# Altium schematic symbol library auto_turn_components.SchLib: 12 symbols
Pins are listed as number, name and electrical type; pins without a type are passive.

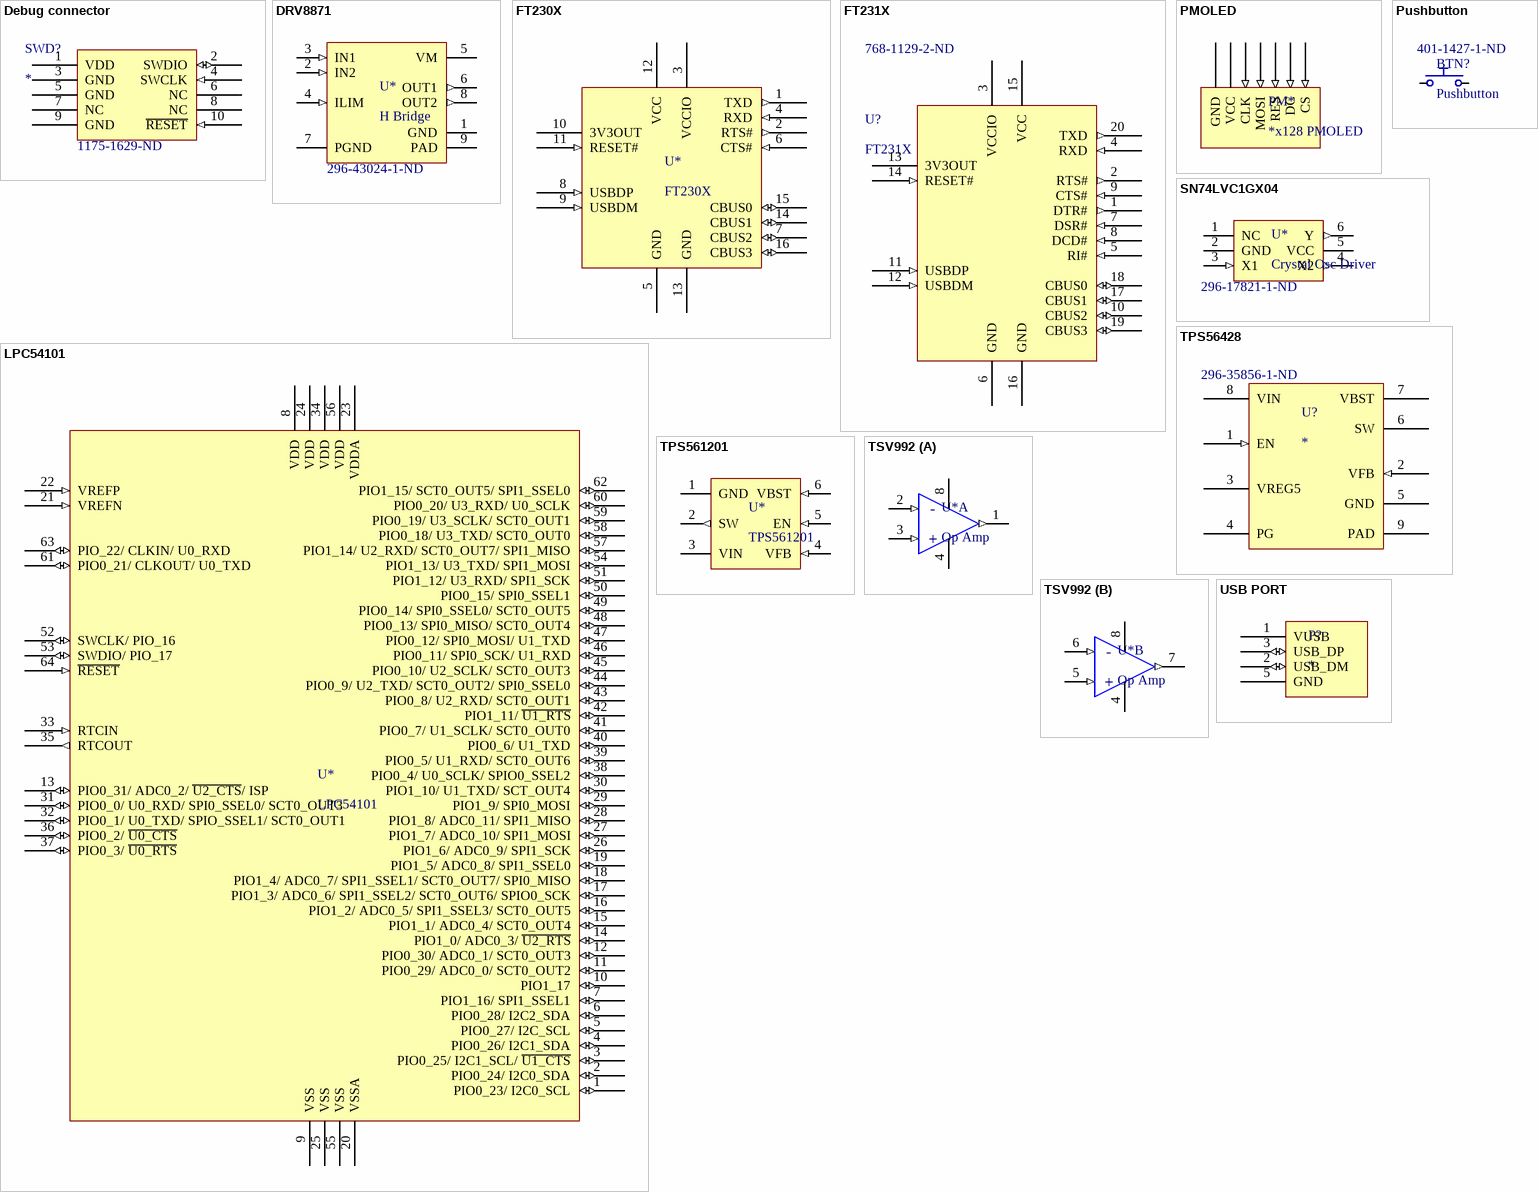
[diagram p0: symbols Debug connector to USB PORT]

## Debug connector
designator SWD?  Supplier Part Number 1: 1175-1629-ND
ARM 10 pin SWD connecttor; Supplier 1: Digi-Key
footprint ARM SWD connector (1.27mm pitch, 10 poles, 2 rows, SMD)
pins: 1 VDD (power), 2 SWDIO (io), 3 GND (power), 4 SWCLK (in), 5 GND (power), 6 NC, 7 NC, 8 NC, 9 GND (hiz), 10 ~{RESET} (in)

## DRV8871
designator U*, comment H Bridge  Supplier Part Number 1: 296-43024-1-ND
Half Bridge DC Motor Driver; Manufacturer: Texas Instruments; ManufacturerPartNumber: DRV8871DDAR; Supplier 1: Texas Instruments
footprint SOIC-8 PP (SOIC-8 with power pad from TI datasheet)
pins: 1 GND (power), 2 IN2 (in), 3 IN1 (in), 4 ILIM (in), 5 VM (power), 6 OUT1 (out), 7 PGND (power), 8 OUT2 (out), 9 PAD (power)

## FT230X
designator U*  Supplier Part Number 1: 768-1135-1-ND
FT230X USB TO BASIC UART IC; Manufacturer: FTDI; ManufacturerPartNumber: FT230X; Supplier 1: Digi-Key
footprint SSOP-16 FTDI (SOP, 16-Leads, Body 4.90x3.90mm, Pitch 0.64mm, IPC Medium Density)
pins: 1 TXD (out), 2 RTS# (out), 3 VCCIO (power), 4 RXD (in), 5 GND (power), 6 CTS# (in), 7 CBUS2 (io), 8 USBDP (in), 9 USBDM (in), 10 3V3OUT (power), 11 RESET# (in), 12 VCC (power), 13 GND (power), 14 CBUS1 (io), 15 CBUS0 (io), 16 CBUS3 (io)

## FT231X
designator U?  Supplier Part Number 1: 768-1129-2-ND
FTDI USB-UART full handshake IC; ManufacturerPartNumber: FT231XS-R; Supplier 1: Digi-Key
footprint SSOP-20 FTDI (FTDI description of SSOP-20 for FT231X, imperial)
pins: 1 DTR# (out), 2 RTS# (out), 3 VCCIO (power), 4 RXD (in), 5 RI# (in), 6 GND (power), 7 DSR# (in), 8 DCD# (in), 9 CTS# (in), 10 CBUS2 (io), 11 USBDP (in), 12 USBDM (in), 13 3V3OUT (power), 14 RESET# (in), 15 VCC (power), 16 GND (power), 17 CBUS1 (io), 18 CBUS0 (io), 19 CBUS3 (io), 20 TXD (out)

## LPC54101
designator U*
LPC54101 uC 64 pin; ManufacturerPartNumber: LPC54101J256BD64QL; Manufacturer: NXP; Supplier 1: DigiKey; Supplier Part Number 1: 568-12886-ND
footprint LQFP64 (LQFP64 from NXP datasheet long lead)
pins: 1 PIO0_23/ I2C0_SCL (io), 2 PIO0_24/ I2C0_SDA (io), 3 PIO0_25/ I2C1_SCL/ ~{U1_CTS} (io), 4 PIO0_26/ I2C1_SDA (io), 5 PIO0_27/ I2C_SCL (io), 6 PIO0_28/ I2C2_SDA (io), 7 PIO1_16/ SPI1_SSEL1 (io), 8 VDD (power), 9 VSS (power), 10 PIO1_17 (io), 11 PIO0_29/ ADC0_0/ SCT0_OUT2 (io), 12 PIO0_30/ ADC0_1/ SCT0_OUT3 (io), 13 PIO0_31/ ADC0_2/ ~{U2_CTS}/ ISP (io), 14 PIO1_0/ ADC0_3/ ~{U2_RTS} (io), 15 PIO1_1/ ADC0_4/ SCT0_OUT4 (io), 16 PIO1_2/ ADC0_5/ SPI1_SSEL3/ SCT0_OUT5 (io), 17 PIO1_3/ ADC0_6/ SPI1_SSEL2/ SCT0_OUT6/ SPIO0_SCK (io), 18 PIO1_4/ ADC0_7/ SPI1_SSEL1/ SCT0_OUT7/ SPI0_MISO (io), 19 PIO1_5/ ADC0_8/ SPI1_SSEL0 (io), 20 VSSA (power), 21 VREFN (in), 22 VREFP (in), 23 VDDA (power), 24 VDD (power), 25 VSS (power), 26 PIO1_6/ ADC0_9/ SPI1_SCK (io), 27 PIO1_7/ ADC0_10/ SPI1_MOSI (io), 28 PIO1_8/ ADC0_11/ SPI1_MISO (io), 29 PIO1_9/ SPI0_MOSI (io), 30 PIO1_10/ U1_TXD/ SCT_OUT4 (io), 31 PIO0_0/ U0_RXD/ SPI0_SSEL0/ SCT0_OUT3 (io), 32 PIO0_1/ U0_TXD/ SPIO_SSEL1/ SCT0_OUT1 (io), 33 RTCIN (in), 34 VDD (power), 35 RTCOUT (out), 36 PIO0_2/ ~{U0_CTS} (io), 37 PIO0_3/ ~{U0_RTS} (io), 38 PIO0_4/ U0_SCLK/ SPIO0_SSEL2 (io), 39 PIO0_5/ U1_RXD/ SCT0_OUT6 (io), 40 PIO0_6/ U1_TXD (io), 41 PIO0_7/ U1_SCLK/ SCT0_OUT0 (io), 42 PIO1_11/ ~{U1_RTS} (io), 43 PIO0_8/ U2_RXD/ SCT0_OUT1 (io), 44 PIO0_9/ U2_TXD/ SCT0_OUT2/ SPI0_SSEL0 (io), 45 PIO0_10/ U2_SCLK/ SCT0_OUT3 (io), 46 PIO0_11/ SPI0_SCK/ U1_RXD (io), 47 PIO0_12/ SPI0_MOSI/ U1_TXD (io), 48 PIO0_13/ SPI0_MISO/ SCT0_OUT4 (io), 49 PIO0_14/ SPI0_SSEL0/ SCT0_OUT5 (io), 50 PIO0_15/ SPI0_SSEL1 (io), 51 PIO1_12/ U3_RXD/ SPI1_SCK (io), 52 SWCLK/ PIO_16 (io), 53 SWDIO/ PIO_17 (io), 54 PIO1_13/ U3_TXD/ SPI1_MOSI (io), 55 VSS (power), 56 VDD (power), 57 PIO1_14/ U2_RXD/ SCT0_OUT7/ SPI1_MISO (io), 58 PIO0_18/ U3_TXD/ SCT0_OUT0 (io), 59 PIO0_19/ U3_SCLK/ SCT0_OUT1 (io), 60 PIO0_20/ U3_RXD/ U0_SCLK (io), 61 PIO0_21/ CLKOUT/ U0_TXD (io), 62 PIO1_15/ SCT0_OUT5/ SPI1_SSEL0 (io), 63 PIO_22/ CLKIN/ U0_RXD (io), 64 ~{RESET} (in)

## PMOLED
designator PM*, comment *x128 PMOLED
Passive Matrix Organic LED Display
footprint PMOLED (128x32 PMOLED)
pins: 1 GND (power), 2 VCC (power), 3 CLK (in), 4 MOSI (in), 5 RES (in), 6 DC (in), 7 CS (in)

## Pushbutton
designator BTN?  Supplier Part Number 1: 401-1427-1-ND
KMR2 microswitch; ManufacturerPartNumber: KMR221GLFS; Supplier 1: Digi-Key
footprint Pushbutton KMR2 (KMR 2 micro switch)
pins: 1, 2

## SN74LVC1GX04
designator U*, comment Crystal Osc Driver  Supplier Part Number 1: 296-17821-1-ND
Crystal Oscillator Driver IC SOT-23-6; ManufacturerPartNumber: SN74LVC1GX04DBVR; Manufacturer: Texas Instruments; Supplier 1: DigiKey
footprint SOT236 (SOT23, 6-Leads, Body 2.90x2.80mm, Pitch 0.95mm, IPC Medium Density)
pins: 1 NC, 2 GND (power), 3 X1 (in), 4 X2 (out), 5 VCC (power), 6 Y (out)

## TPS56428
designator U?  Supplier Part Number 1: 296-35856-1-ND
Buck regulator; Supplier 1: Digi-Key
footprint SOIC-8 PP (SOIC-8 with power pad from TI datasheet)
pins: 1 EN (in), 2 VFB (in), 3 VREG5 (power), 4 PG (oc), 5 GND (power), 6 SW (power), 7 VBST (power), 8 VIN (power), 9 PAD

## TPS561201
designator U*
Buck Regulator; Manufacturer: Texas Instruments; ManufacturerPartNumber: TPS561201DDCT; Supplier 1: DigiKey; Supplier Part Number 1: 296-46928-1-ND
footprint SOT236 (SOT23, 6-Leads, Body 2.90x2.80mm, Pitch 0.95mm, IPC Medium Density)
pins: 1 GND (power), 2 SW (out), 3 VIN (power), 4 VFB (in) "VFP", 5 EN (in) "VFP", 6 VBST (in) "VFP"

## TSV992
designator U*, comment Op Amp
Dual Op Amp; ManufacturerPartNumber: TSV992IYDT; Manufacturer: ST Electronics; Supplier 1: DigiKey; Supplier Part Number 1: 497-10359-1-ND
footprint SOIC-8 (SOIC-8 from TI datasheet)
part A pins: 1 OUT1 (out), 2 IN1- (in), 3 IN1+ (in), 4 VCC+ (power), 8 VCC- (power)
part B pins: 4 VCC+ (power), 5 IN2+ (in), 6 IN2- (in), 7 OUT2 (out), 8 VCC- (power)
part A text: -; +
part B text: -; +

## USB PORT
designator P?
USB port
footprint Micro USB (Micro USB port, Molex 47590-0001)
pins: 1 VUSB (power), 2 USB_DM (io), 3 USB_DP (io), 5 GND (power)